# EAGLE library part INA250 (library ina250)
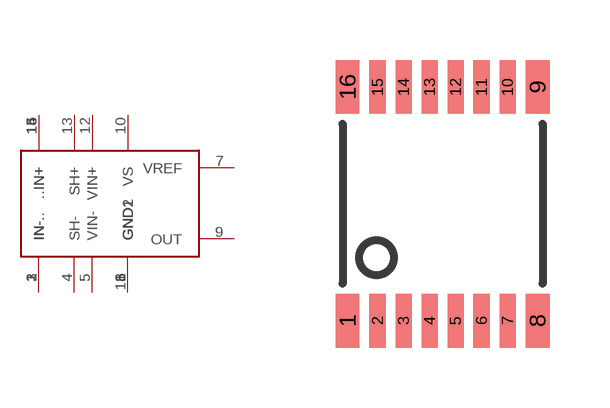
[diagram p0: symbol with the pads of TSSOP16; footprint TSSOP16]

Designator prefix -

## INA250  [TSSOP16]
1  IN-
2  IN-.
3  IN-..
4  SH-
5  VIN-
6  GND
7  VREF
8  GND1
9  OUT
10  VS
11  GND2
12  VIN+
13  SH+
14  IN+
15  .IN+
16  ..IN+

## Footprint TSSOP16 (pad centres in mm)
smd 0.6 x 1.35: 1 -2.375,-2.925; 8 2.375,-2.925; 9 2.375,2.925; 16 -2.375,2.925
smd 0.4 x 1.35: 2 -1.625,-2.925; 3 -0.975,-2.925; 4 -0.325,-2.925; 5 0.325,-2.925; 6 0.975,-2.925; 7 1.625,-2.925; 10 1.625,2.925; 11 0.975,2.925; 12 0.325,2.925; 13 -0.325,2.925; 14 -0.975,2.925; 15 -1.625,2.925